# EAGLE library part 404-5X032-5X (library con-ept-one27)
ept One27 female straight 32pins 1.27 mm pitch SMT Board-to-Board Connector System for parallel, horizontal and perpendicular PCB connections as well as cable-to-board connections. For mezzanine board-to-board connections from 8mm up to 13.8mm. Available with 12 to 80 pins. www.ept.de
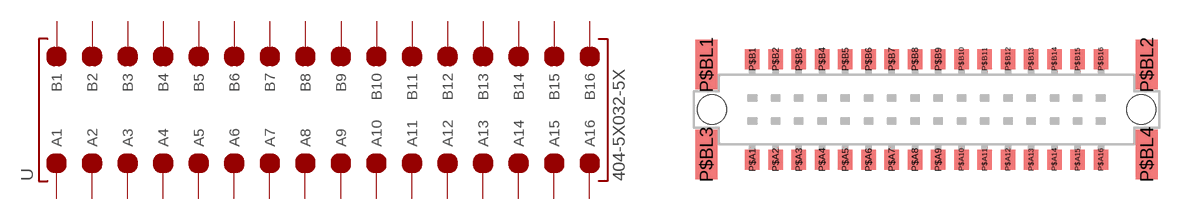
[diagram p22: symbol with the pads of 404-5X032-5X; footprint 404-5X032-5X]

Designator prefix -

## 404-5X032-5X  [404-5X032-5X]
P$A1  A1  pas
P$A2  A2  pas
P$A3  A3  pas
P$A4  A4  pas
P$A5  A5  pas
P$A6  A6  pas
P$A7  A7  pas
P$A8  A8  pas
P$A9  A9  pas
P$A10  A10  pas
P$A11  A11  pas
P$A12  A12  pas
P$A13  A13  pas
P$A14  A14  pas
P$A15  A15  pas
P$A16  A16  pas
P$B1  B1  pas
P$B2  B2  pas
P$B3  B3  pas
P$B4  B4  pas
P$B5  B5  pas
P$B6  B6  pas
P$B7  B7  pas
P$B8  B8  pas
P$B9  B9  pas
P$B10  B10  pas
P$B11  B11  pas
P$B12  B12  pas
P$B13  B13  pas
P$B14  B14  pas
P$B15  B15  pas
P$B16  B16  pas

## Footprint 404-5X032-5X (pad centres in mm)
ept One27 female straight 32pins 1.27 mm pitch SMT Board-to-Board Connector System for parallel, horizontal and perpendicular PCB connections as well as cable-to-board connections. For mezzanine board-to-board connections from 8mm up to 13.8mm. Available with 12 to 80 pins. www.ept.de
smd 0.8 x 1.1: P$A1 -9.525,-2.75; P$A2 -8.255,-2.75; P$A3 -6.985,-2.75; P$A4 -5.715,-2.75; P$A5 -4.445,-2.75; P$A6 -3.175,-2.75; P$A7 -1.905,-2.75; P$A8 -0.635,-2.75; P$A9 0.635,-2.75; P$A10 1.905,-2.75; P$A11 3.175,-2.75; P$A12 4.445,-2.75; P$A13 5.715,-2.75; P$A14 6.985,-2.75; P$A15 8.255,-2.75; P$A16 9.525,-2.75; P$B1 -9.525,2.75; P$B2 -8.255,2.75; P$B3 -6.985,2.75; P$B4 -5.715,2.75; P$B5 -4.445,2.75; P$B6 -3.175,2.75; P$B7 -1.905,2.75; P$B8 -0.635,2.75; P$B9 0.635,2.75; P$B10 1.905,2.75; P$B11 3.175,2.75; P$B12 4.445,2.75; P$B13 5.715,2.75; P$B14 6.985,2.75; P$B15 8.255,2.75; P$B16 9.525,2.75
smd 1.2 x 2.7: P$BL1 -12.035,2.45; P$BL2 12.035,2.45; P$BL3 -12.035,-2.45; P$BL4 12.035,-2.45
hole 1.6 at -11.735,0
hole 1.6 at 11.735,0